# EAGLE library part USB-MINI-B-SMD-FLAT-SIDE (library USB Connector)
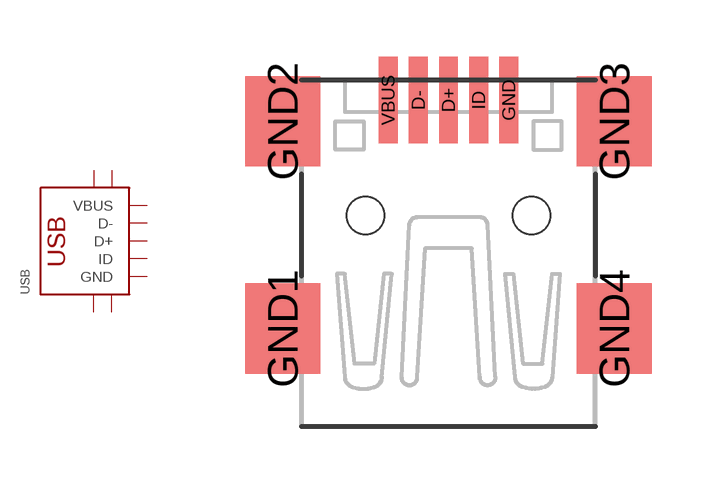
[diagram p4: symbol with the pads of USB-MINI-B-SMD-FLAT-SIDE; footprint USB-MINI-B-SMD-FLAT-SIDE]

Designator prefix USB

## USB-MINI-B-SMD-FLAT-SIDE  [USB-MINI-B-SMD-FLAT-SIDE]
D+  D+
D-  D-
GND  GND
GND1  SHIELD
GND2  SHIELD
GND3  SHIELD
GND4  SHIELD
ID  ID
VBUS  VBUS

## Footprint USB-MINI-B-SMD-FLAT-SIDE (pad centres in mm)
Surface Mount USB Mini-B Connector
smd 0.5 x 2.308: D+ 0,4.064; D- -0.8,4.064; GND 1.6,4.064; ID 0.8,4.064; VBUS -1.6,4.064
smd 2 x 2.4: GND1 -4.4,-2; GND2 -4.4,3.5; GND3 4.4,3.5; GND4 4.4,-2
hole 1 at -2.2,1
hole 1 at 2.2,1